# Altium schematic symbol library HDC2022.SchLib: 18 symbols
Pins are listed as number, name and electrical type; pins without a type are passive.

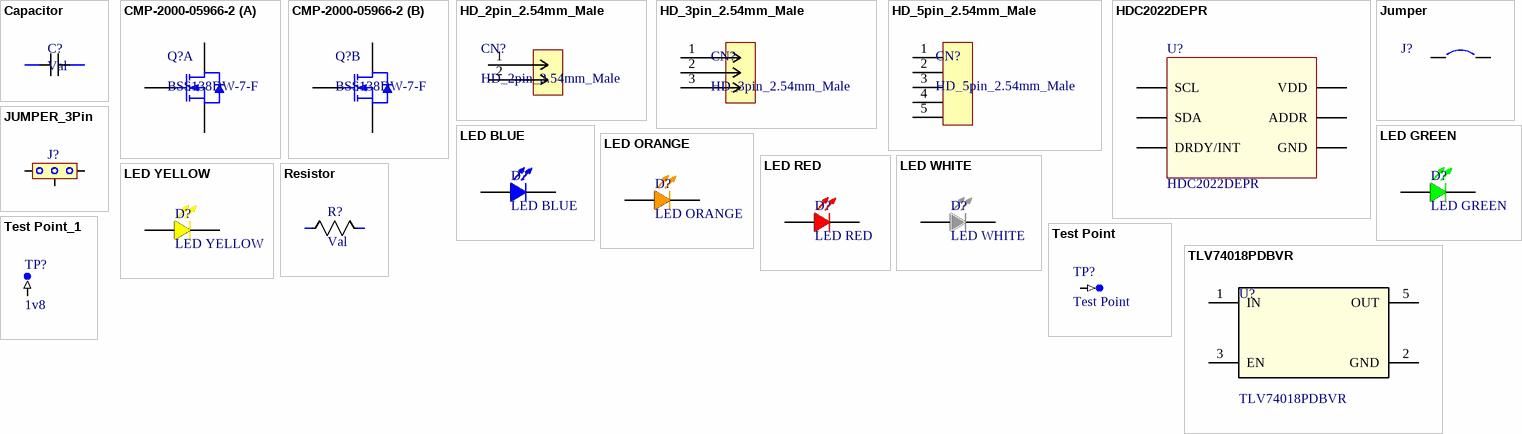
[diagram p0: symbols Capacitor to TLV74018PDBVR]

## Capacitor
designator C?, comment Val
footprint CAP_0201 (Chip Capacitor, 2-Leads, Body 0.60x0.30mm, IPC Medium Density)
footprint CAP_0402 (Chip Capacitor, 2-Leads, Body 1.00x0.50mm, IPC Medium Density)
footprint CAP_0603 (Chip Capacitor, 2-Leads, Body 1.50x0.80mm, IPC Medium Density)
footprint CAP_0805 (Chip Capacitor, 2-Leads, Body 2.00x1.25mm, IPC Medium Density)
pins: 1, 2

## CMP-2000-05966-2
designator Q?, comment BSS138DW-7-F
Dual N-Channel Enhancement Mode Field Effect Transistor, 50 V, 200 mA, -55 to 150 degC, 6-Pin SOT-363, RoHS, Tape and Reel; Manufacturer: DiodesIncorporated; RevisionId: 1; Transistor Type: 2N-Channel; Typical Turn-On Delay Time: 20ns; Pd - Power Dissipation: 200mW; Vds - Drain-Source Breakdown Voltage: 50V; Unit Weight: 0.000212oz; Folder: Unified Components\Components\New Releases\New\; ContentType: Unified Component; Id - Continuous Drain Current: 200mA; Vgs - Gate-Source Voltage: 20V; ItemHRID: CMP-2000-05966; AccessRights: 2147483647; Rds On - Drain-Source Resistance: 3.5Ohms; Number of Channels: 2Channel; ReleaseDate: 30/08/2017 08:55:44 AM; Width: 1.35mm; Manufacturer URL: http://www.diodes.com/; Height: 1mm; LifeCycle: Released; Mounting Technology: SurfaceMount; Product: MOSFETSmallSignal; RoHS: True; ItemGUID: D038B86C-7A34-4742-AE06-400EAE30903C; Mounting Style: SMD/SMT; FolderGUID: B7F4506A-9127-42E7-A087-46FE7B18D116; LifeCycleStateGUID: 61E382EE-6656-4F12-9E24-BE9327104A25; Package Reference: SOT363-6; Minimum Operating Temperature: -55C; Datasheet URL: http://www.diodes.com/_files/datasheets/ds30203.pdf; Series: BSS138; Product Category: MOSFET; Brand: DiodesIncorporated; Packaging: Reel; Configuration: Dual; Package / Case: SOT-363-6; Typical Turn-Off Delay Time: 20ns; Factory Pack Quantity: 3000; Transistor Polarity: N-Channel; Package Description: 6-Pin Small Outline Transistor, Body 1.25 x 2 mm, Pitch 0.65 mm; Maximum Operating Temperature: +150C; Channel Mode: Enhancement; Technology: Si; Length: 2.2mm; Datasheet Version: Rev. 13-2, 01/2014; ContentTypeGUID: CB3C11C4-E317-11DF-B822-12313F0024A2
footprint DIOD-SOT363-6_V (SOT23, 6-Leads, Body 1.35x2.20mm, Pitch 0.65mm)
part A pins: 1 S1, 2 G1, 6 D1
part B pins: 3 D2, 4 S2, 5 G2

## HD_2pin_2.54mm_Male
designator CN?
footprint HD_2pin_2.54mm_male
pins: 1, 2

## HD_3pin_2.54mm_Male
designator CN?
footprint HD_3pin_2.54mm_male
pins: 1, 2, 3 23

## HD_5pin_2.54mm_Male
designator CN?
footprint HD_5pin_2.54mm_male
pins: 1, 2, 3, 4, 5

## HDC2022DEPR
designator U?
Manufacturer: Texas Instruments; Supplier 1: Digi-Key; Manufacturer Part Number: HDC2022DEPR; RoHS: No; Stock 1: 2745; Pricing 1: 1=4,49000, 5=3,96000, 10=3,49800, 25=2,83800, 50=2,50800, 100=2,44200, 500=2,04600, 1000=1,91400 (USD); Supplier Part Number 1: 296-HDC2022DEPRCT-ND
footprint WSON-6
pins: 1 SDA, 2 GND, 3 ADDR, 4 DRDY/INT, 5 VDD, 6 SCL

## Jumper
designator J?  (no BOM)
Jumper; Published: 24-Mar-1999; Revision: July-2002: Re-released for DXP Platform.; Publisher: Altium Limited
footprint SB_0603 (Footprint not found)
pins: 1, 2

## JUMPER_3Pin
designator J?  (value not drawn)  (no BOM)
footprint SB_0603 - 3 Pin (Jumper)
pins: 1, 2, 3

## LED BLUE
designator D?
footprint LED_0402 (Chip Capacitor, 2-Leads, Body 1.00x0.50mm, IPC Medium Density)
footprint LED_0201 (Chip Capacitor, 2-Leads, Body 0.60x0.30mm, IPC Medium Density)
footprint LED_0603 (Chip Capacitor, 2-Leads, Body 1.50x0.80mm, IPC Medium Density)
footprint LED_0805 (Chip Capacitor, 2-Leads, Body 2.00x1.25mm, IPC Medium Density)
pins: A, C

## LED GREEN
designator D?
footprint LED_0201 (Chip Capacitor, 2-Leads, Body 0.60x0.30mm, IPC Medium Density)
footprint LED_0402 (Chip Capacitor, 2-Leads, Body 1.00x0.50mm, IPC Medium Density)
footprint LED_0603 (Chip Capacitor, 2-Leads, Body 1.50x0.80mm, IPC Medium Density)
footprint LED_0805 (Chip Capacitor, 2-Leads, Body 2.00x1.25mm, IPC Medium Density)
pins: A, C

## LED ORANGE
designator D?
footprint LED_0201 (Chip Capacitor, 2-Leads, Body 0.60x0.30mm, IPC Medium Density)
footprint LED_0402 (Chip Capacitor, 2-Leads, Body 1.00x0.50mm, IPC Medium Density)
footprint LED_0603 (Chip Capacitor, 2-Leads, Body 1.50x0.80mm, IPC Medium Density)
footprint LED_0805 (Chip Capacitor, 2-Leads, Body 2.00x1.25mm, IPC Medium Density)
pins: A, C

## LED RED
designator D?
footprint LED_0805 (Chip Capacitor, 2-Leads, Body 2.00x1.25mm, IPC Medium Density)
footprint LED_0603 (Chip Capacitor, 2-Leads, Body 1.50x0.80mm, IPC Medium Density)
footprint LED_0201 (Chip Capacitor, 2-Leads, Body 0.60x0.30mm, IPC Medium Density)
footprint LED_0402 (Chip Capacitor, 2-Leads, Body 1.00x0.50mm, IPC Medium Density)
pins: A, C

## LED WHITE
designator D?
footprint LED_0201 (Chip Capacitor, 2-Leads, Body 0.60x0.30mm, IPC Medium Density)
footprint LED_0402 (Chip Capacitor, 2-Leads, Body 1.00x0.50mm, IPC Medium Density)
footprint LED_0603 (Chip Capacitor, 2-Leads, Body 1.50x0.80mm, IPC Medium Density)
footprint LED_0805 (Chip Capacitor, 2-Leads, Body 2.00x1.25mm, IPC Medium Density)
pins: A, C

## LED YELLOW
designator D?
footprint LED_0201 (Chip Capacitor, 2-Leads, Body 0.60x0.30mm, IPC Medium Density)
footprint LED_0402 (Chip Capacitor, 2-Leads, Body 1.00x0.50mm, IPC Medium Density)
footprint LED_0603 (Chip Capacitor, 2-Leads, Body 1.50x0.80mm, IPC Medium Density)
footprint LED_0805 (Chip Capacitor, 2-Leads, Body 2.00x1.25mm, IPC Medium Density)
pins: A, C

## Resistor
designator R?, comment Val
footprint RES_0201 (Chip Capacitor, 2-Leads, Body 0.60x0.30mm, IPC Medium Density)
footprint RES_0402 (Chip Capacitor, 2-Leads, Body 1.00x0.50mm, IPC Medium Density)
footprint RES_0603 (Chip Resistor, 2-Leads, Body 1.55x0.80mm, IPC Medium Density)
footprint RES_0805
pins: 1, 2

## Test Point
designator TP?  (no BOM)
footprint TP
pins: 1 (in)

## Test Point_1
designator TP?, comment 1v8
footprint TP
pins: 1 (in)

## TLV74018PDBVR
designator U?
Manufacturer: Texas Instruments; Supplier 1: Digi-Key; Manufacturer Part Number: TLV74018PDBVR; RoHS: No; Stock 1: 4366; Pricing 1: 1=0,24000, 10=0,19400, 25=0,16200, 100=0,09000, 250=0,07920, 500=0,06750, 1000=0,04590 (USD); Supplier Part Number 1: 296-TLV74018PDBVRCT-ND
footprint SOIC_DBVR_TEX
pins: 1 IN, 2 GND, 3 EN, 4 NC, 5 OUT